# Altium footprint library PcbLib.PcbLib: 3 footprints
Each footprint in its own frame and in the unit in brackets; x right, y up, seen from the top. Pads: shape width x height; smd on the part's side, far side on the other; paste and mask are expansions set on the pad; w line width, h text height; cw(c..) or ccw(c..) is an arc to the next point about the centre after c.
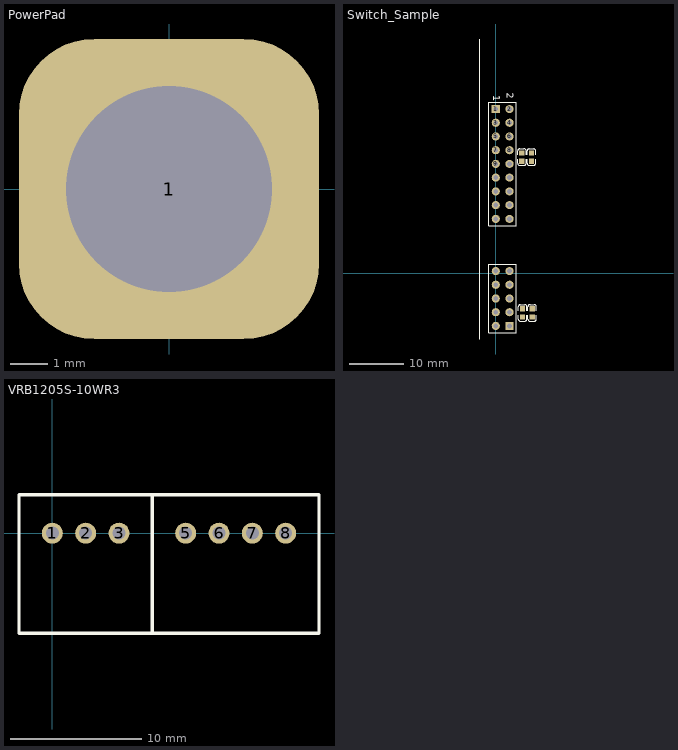
[diagram p0: the footprints below, top view; thin cyan lines are the x and y axes]

## PowerPad [mm] "PowerPad"
pads (1):
  rrect50% 8x8 hole 5.5: 1(0,0)

## Switch_Sample [mm] "Switch_Sample"
pads (36):
  rect 1.5x1.5 hole 0.9: 1(0,30.353) 28(2.54,-9.779)
  round 1.5 hole 0.9: 2(2.54,30.353) 3(0,27.813) 4(2.54,27.813) 5(0,25.273) 6(2.54,25.273) 7(0,22.733) 8(2.54,22.733) 9(0,20.193) 10(2.54,20.193) 11(0,17.653) 12(2.54,17.653) 13(0,15.113) 14(2.54,15.113) 15(0,12.573) 16(2.54,12.573) 17(0,10.033) 18(2.54,10.033) 19(0,0.381) 20(2.54,0.381) 21(0,-2.159) 22(2.54,-2.159) 23(0,-4.699) 24(2.54,-4.699) 25(0,-7.239) 26(2.54,-7.239) 27(0,-9.779)
  rect 0.98x0.93 smd: 8(4.826,22.233) 8(6.604,22.233) 10(4.826,20.693) 10(6.604,20.693) 24(4.953,-6.596) 24(6.731,-6.596) 28(4.953,-8.136) 28(6.731,-8.136)
Bottom Layer:
  lines w0.508: 2.54,-7.239 2.667,-7.239
  lines w0.762: 2.54,10.033 2.74,10.033
Top Overlay:
  lines w0.2: 4.036,21.063 4.036,20.328 ccw(c4.436,20.328) 4.436,19.928 5.216,19.928 ccw(c5.216,20.328) 5.616,20.328 5.616,21.063 ; 4.036,21.863 4.036,22.598 cw(c4.436,22.598) 4.436,22.998 5.216,22.998 cw(c5.216,22.598) 5.616,22.598 5.616,21.863 ; 4.163,-7.766 4.163,-8.501 ccw(c4.563,-8.501) 4.563,-8.901 5.343,-8.901 ccw(c5.343,-8.501) 5.743,-8.501 5.743,-7.766 ; 4.163,-6.966 4.163,-6.231 cw(c4.563,-6.231) 4.563,-5.831 5.343,-5.831 cw(c5.343,-6.231) 5.743,-6.231 5.743,-6.966 ; 5.814,21.063 5.814,20.328 ccw(c6.214,20.328) 6.214,19.928 6.994,19.928 ccw(c6.994,20.328) 7.394,20.328 7.394,21.063 ; 5.814,21.863 5.814,22.598 cw(c6.214,22.598) 6.214,22.998 6.994,22.998 cw(c6.994,22.598) 7.394,22.598 7.394,21.863 ; 5.941,-7.766 5.941,-8.501 ccw(c6.341,-8.501) 6.341,-8.901 7.121,-8.901 ccw(c7.121,-8.501) 7.521,-8.501 7.521,-7.766 ; 5.941,-6.966 5.941,-6.231 cw(c6.341,-6.231) 6.341,-5.831 7.121,-5.831 cw(c7.121,-6.231) 7.521,-6.231 7.521,-6.966 ; -1.27,-11.049 3.81,-11.049 3.81,1.651 -1.27,1.651 -1.27,-11.049 ; -1.27,8.763 -1.27,31.623 3.81,31.623 3.81,8.763 -1.27,8.763
  lines w0.229: -3,-12.192 -3,43.307
  text "1" at -0.508,32.893 h1.27
  text "2" at 2.032,33.401 h1.27
Bottom Overlay:
  lines w0.254: -1.27,11.684 -1.27,21.082 ; -1.27,21.844 -1.27,31.115
3D body "User Library-0603 SMD Capacitor.STEP": height 0.3, standoff 0, extent 4.426,20.663 5.226,22.263
3D body "User Library-0603 SMD Capacitor.STEP": height 0.3, standoff 0, extent 6.204,20.663 7.004,22.263
3D body "User Library-0603 SMD Capacitor.STEP": height 0.3, standoff 0, extent 6.331,-8.166 7.131,-6.566
3D body "User Library-0603 SMD Capacitor.STEP": height 0.3, standoff 0, extent 4.553,-8.166 5.353,-6.566

## VRB1205S-10WR3 [mm] "VRB1205S-10WR3"
pads (7):
  round 1.6 hole 1: 1(0,0) 2(2.54,0) 3(5.08,0) 5(10.16,0) 6(12.7,0) 7(15.24,0) 8(17.78,0)
Top Overlay:
  lines w0.254: 7.62,-7.62 7.62,2.921 ; -2.54,-7.62 -2.54,2.921 20.32,2.921 20.32,-7.62 -2.54,-7.62